# EAGLE library part ADS1015 (library FSAE Electric)
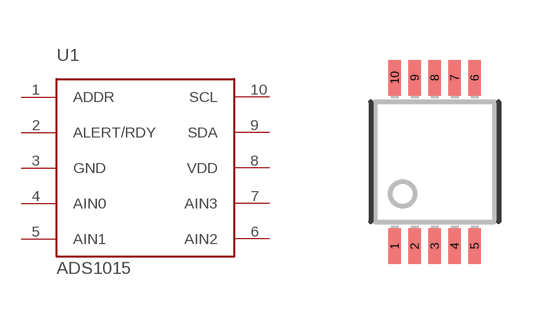
[diagram p81: symbol with the pads of MSOP-10; footprint MSOP-10]

Designator prefix U1

## ADS1015 (PARTNO: ADS1015QDGSRQ1)  [MSOP-10]
1  ADDR
2  ALERT/RDY
3  GND
4  AIN0
5  AIN1
6  AIN2
7  AIN3
8  VDD
9  SDA
10  SCL

## Footprint MSOP-10 (pad centres in mm)
smd 0.305 x 0.889: 1 -1,-2.11; 2 -0.5,-2.11; 3 0,-2.11; 4 0.5,-2.11; 5 1,-2.11; 6 1,2.11; 7 0.5,2.11; 8 0,2.11; 9 -0.5,2.11; 10 -1,2.11